# Altium integrated library Switch & Relays FAE.IntLib: 34 symbols
Pins are listed as number, name and electrical type; pins without a type are passive.

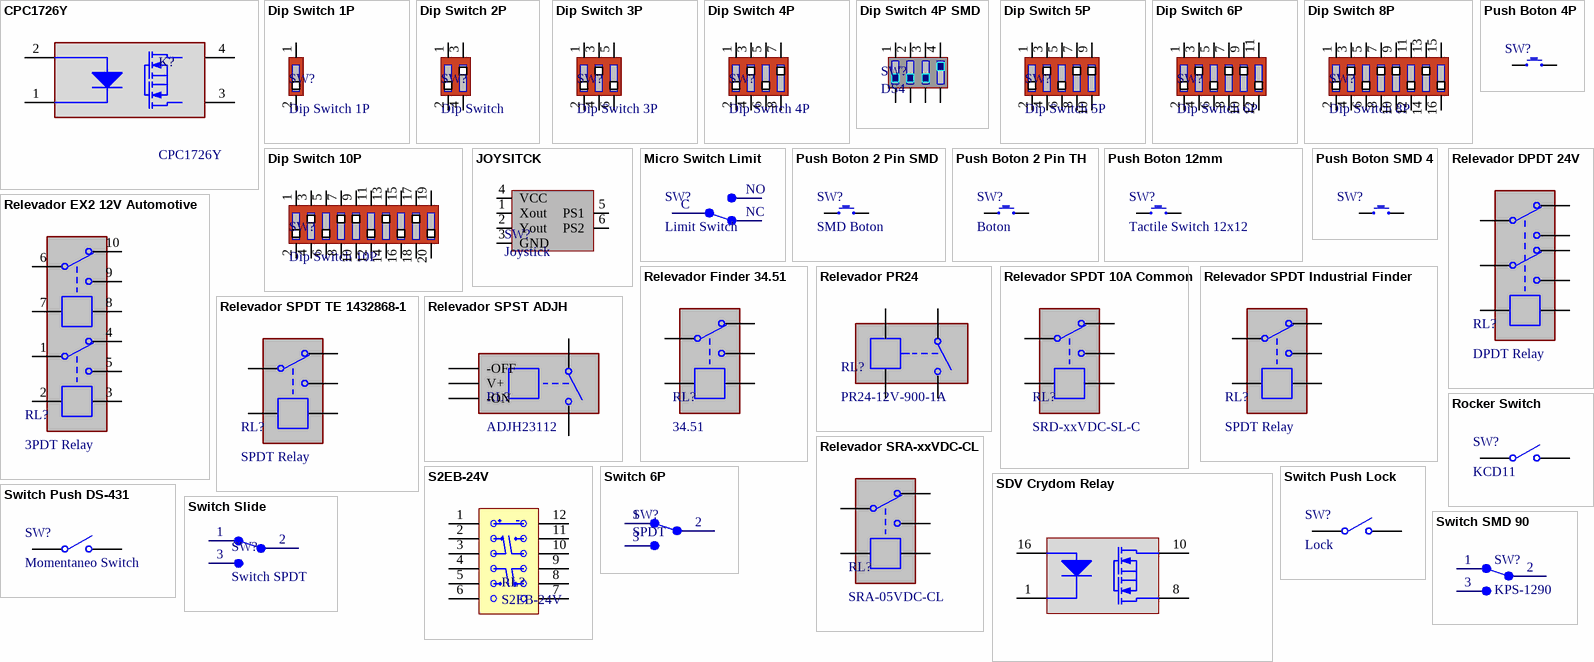
[diagram p0: symbols CPC1726Y to Switch SMD 90]

## CPC1726Y
designator K?
Solid State Relays - PCB Mount 250V Single Pole DC Power Relay; Manufacturer_Name: LITTELFUSE; Geometry.Height: 10.287mm; Manufacturer_Part_Number: CPC1726Y; Mouser Part Number: 849-CPC1726Y; Mouser Price/Stock: https://www.mouser.co.uk/ProductDetail/IXYS-Integrated-Circuits/CPC1726Y?qs=OpMkDkHXivNXAz9dUUmeNw%3D%3D; Arrow Part Number: *; Arrow Price/Stock: *; Datasheet Link: https://www.mouser.com/datasheet/2/240/CPC1726-1546372.pdf
footprint CPC1726Y
pins: 1, 2, 3, 4

## Dip Switch 1P
designator SW?
DIP Switch 1P TH
footprint DIP SWITCH 1P (Dip Switch 1P TH)
pins: 1, 2

## Dip Switch 2P
designator SW?, comment Dip Switch
DIP Switch 2P TH
footprint DIP SWITCH 2P (Dip Switch 2P TH)
pins: 1, 2, 3 2, 4

## Dip Switch 3P
designator SW?
DIP Switch 3P TH
footprint DIP SWITCH 3P (Dip Switch 3P TH)
pins: 1, 2, 3, 4, 5 6, 6

## Dip Switch 4P
designator SW?
DIP Switch 4P TH
footprint DIP SWITCH 4P (Dip Switch 4P TH)
pins: 1, 2, 3, 4, 5, 6, 7, 8

## Dip Switch 4P SMD
designator SW?, comment DS4
SMT Dip Switch
footprint DIP SWITCH 4 SMD
pins: 1, 2, 3, 4, 5, 6, 7, 8

## Dip Switch 5P
designator SW?
DIP Switch 5P TH
footprint DIP SWITCH 5P (Dip Switch 5P TH)
pins: 1, 2, 3, 4, 5, 6, 7, 8, 9, 10

## Dip Switch 6P
designator SW?
DIP Switch 6P TH
footprint DIP SWITCH 6P (Dip Switch 6P TH)
pins: 1, 2, 3, 4, 5, 6, 7, 8, 9, 10, 11, 12

## Dip Switch 8P
designator SW?
DIP Switch 8P TH
footprint DIP SWITCH 8P (Dip Switch 8P TH)
pins: 1, 2, 3, 4, 5, 6, 7, 8, 9, 10, 11, 12, 13, 14, 15, 16

## Dip Switch 10P
designator SW?
DIP Switch 10P TH
footprint DIP SWITCH 10P (Dip Switch 10P TH)
pins: 1, 2, 3, 4, 5, 6, 7, 8, 9, 10, 11, 12, 13, 14, 15, 16, 17, 18, 19, 20

## JOYSITCK
designator SW?, comment Joystick
Analog 2 Axis Joystick
footprint JOYSTICK
pins: 1 Xout, 2 Yout, 3 GND, 4 VCC, 5 PS1, 6 PS2

## Micro Switch Limit
designator SW?, comment Limit Switch
Micro Switch Limit IEMPUL0010030; ComponentLink1Description: IEMPUL0010030; ComponentLink1URL: https://a-electronics.com.mx/index.php?id_product=1157&controller=product&search_query=limit+switch&results=7
footprint Micro Switch (Limit Switch Micro AE)
pins: C, NC, NO

## Push Boton 2 Pin SMD
designator SW?, comment SMD Boton
Micro Push
footprint Push Boton Nano 2 Pin (Push Boton SMD 2 pin)
pins: 1 27, 2 28

## Push Boton 2 Pin TH
designator SW?, comment Boton
Micro Push TH
footprint Push Boton 2P C (Push Boton TH 6x4 2 pines cortos)
pins: 1 27, 2 28

## Push Boton 4P
designator SW?, comment Boton TH  (value not drawn)
6x6mm Push
footprint PUSH BOTON (Push Boton TH 6x6mm)
pins: 1 27, 2 28

## Push Boton 12mm
designator SW?, comment Tactile Switch 12x12
12mm Switch Push
footprint Push Boton 12mm (Push Boton 12x12mm)
pins: 1 T1, 2 T2

## Push Boton SMD 4
designator SW?, comment Boton SMD 4P  (value not drawn)
Tactile Switch Push
footprint Push SMD 4P (SMD 4P Push)
pins: 1 27, 2 28

## Relevador DPDT 24V
designator RL?, comment DPDT Relay
24V Relay FTR-F1CA024V
footprint Relevador 24V DPDT (DPDT 25V Relevador FTR-F1CA024V)
pins: 1, 2, 3, 4, 5, 6, 7, 8

## Relevador EX2 12V Automotive
designator RL?, comment 3PDT Relay
12V EX2 RELAY
footprint EX2 Relevador (Relevador 4PDT 2 Bobinas)
pins: 1, 2, 3, 4, 5, 6, 7, 8, 9, 10

## Relevador Finder 34.51
designator RL?, comment 34.51
Relevador Finder Serie 34.51
footprint 34.51 Relevador Finder (Relevador Finder 34.51)
pins: 1, 2, 3, 4, 5

## Relevador PR24
designator RL?, comment PR24-12V-900-1A
PR24-12V-900-1A Power Relay 12V 40A 1 From A
footprint PR24 SPST 1FA (Power Relay PR24 1 From A)
pins: 1 b+, 2 b-, 3, 4, 5

## Relevador SPDT 10A Common
designator RL?, comment SRD-xxVDC-SL-C
Relevador SPDT 10A
footprint Relevador 10A (Relevador SPDT 10A Common)
pins: 1, 2, 3, 4, 5

## Relevador SPDT Industrial Finder
designator RL?, comment SPDT Relay
Relay RM8/ Series 40 Finder
footprint Relevador SPDT Industrial (Finder Series 40 y RM87N Compatible)
pins: 1, 2, 3, 4, 5

## Relevador SPDT TE 1432868-1
designator RL?, comment SPDT Relay
12V 40A AUTOMOTIVE RELAY
footprint VCF4-1000 (VCF4-1000 Socket Relay)
pins: 1, 2, 3, 4, 5

## Relevador SPST ADJH
designator RL?, comment ADJH23112
12V 50A ADJH23112
footprint ADJ-H Relay (Relevador Finder 34.51)
pins: 1 -ON, 2 -OFF, 3, 4, 5 V+

## Relevador SRA-xxVDC-CL
designator RL?, comment SRA-05VDC-CL
SRA-05VDC-CL Mini power Relay 20A
footprint Relevador Mini 20A
pins: 1, 2, 3, 4, 5

## Rocker Switch
designator SW?, comment KCD11
Mini Rocker Switch 15mm
footprint Rocker Switch KCD11 (KCD11 Rocker Switch 15mm)
pins: 1 COMMON, 2 NO

## S2EB-24V
designator RL?
Panasonic Relay
footprint S2EB-24V (S2EB-24V Relay Panasonic)
pins: 1, 2, 3, 4, 5, 6, 7, 8, 9, 10, 11, 12

## SDV Crydom Relay
designator K?, comment SDV2415
SSR Crydom PCB Relay SDV Series
footprint Crydom SDV (SSR Relay Crydom SDV series)
pins: 1, 8, 10, 16

## Switch 6P
designator SW?, comment SPDT
Switch SPST
footprint Switch 5.08mm 6P (Slide Switch SPDT)
pins: 1, 2, 3

## Switch Push DS-431
designator SW?, comment Momentaneo Switch
Switch Momentaneo Montaje Panel
footprint Switch Cuadrado 12mm (Switch Momentaneo Montaje Panel)
pins: 1 COMMON, 2 NO

## Switch Push Lock
designator SW?, comment Lock
Switch con enclave
footprint Switch Lock (Push con enclave 8mm)
pins: 1 COMMON, 2 NO

## Switch Slide
designator SW?, comment Switch SPDT
Slide Switch SPDT 3P
footprint Slide Switch 5.08mm (Mini Slide Switch SPDT 3P)
pins: 1, 2, 3

## Switch SMD 90
designator SW?, comment KPS-1290
Slide Switch SMD KPS-1290
footprint KPS-1290 (Micro Slide Switch)
pins: 1, 2, 3